# EAGLE library part DUAL-MOSFET-NCHANNEL (library pimoroni-passives)
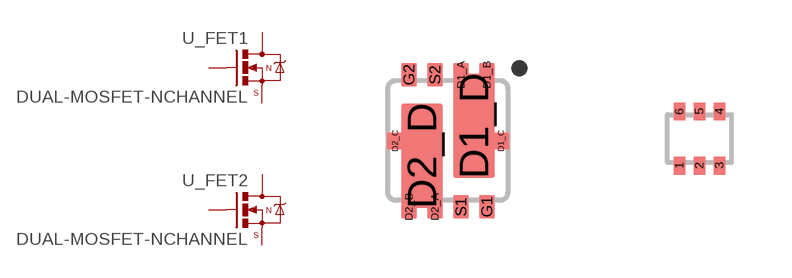
[diagram p3: symbol with the pads of AON7804; footprints AON7804, SOT-563]

Designator prefix U; gates _FET1=MOSFET-NCHANNEL _FET2=MOSFET-NCHANNEL

## DUAL-MOSFET-NCHANNEL  [AON7804]
D1_A  _FET1:D  pas
D1_B  _FET1:D  pas
D1_C  _FET1:D  pas
D1_D  _FET1:D  pas
D2_A  _FET2:D  pas
D2_B  _FET2:D  pas
D2_C  _FET2:D  pas
D2_D  _FET2:D  pas
G1  _FET1:G  pas
G2  _FET2:G  pas
S1  _FET1:S  pas
S2  _FET2:S  pas

## DUAL-MOSFET-NCHANNELSOT-563  [SOT-563]
1  _FET1:S  pas
2  _FET1:G  pas
3  _FET2:D  pas
4  _FET2:S  pas
5  _FET2:G  pas
6  _FET1:D  pas

## Footprint AON7804 (pad centres in mm)
smd 0.4 x 0.58: D1_A 0.327,1.64; D1_B 0.977,1.64; D2_A -0.323,-1.66; D2_B -0.973,-1.66; G1 0.977,-1.66; G2 -0.973,1.64; S1 0.327,-1.66; S2 -0.323,1.64
smd 0.43 x 0.43: D1_C 1.327,-0.01; D2_C -1.323,-0.01
smd 1.05 x 2.6: D1_D 0.652,0.365; D2_D -0.648,-0.385

## Footprint SOT-563 (pad centres in mm)
smd 0.3 x 0.45: 1 -0.5,-0.675; 2 0,-0.675; 3 0.5,-0.675; 4 0.5,0.675; 5 0,0.675; 6 -0.5,0.675